# Altium integrated library Battery Holder.IntLib: 5 symbols
Pins are listed as number, name and electrical type; pins without a type are passive.

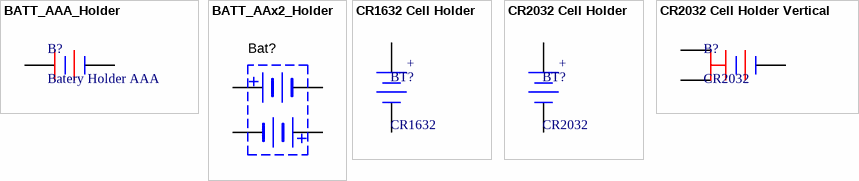
[diagram p0: symbols BATT_AAA_Holder to CR2032 Cell Holder Vertical]

## BATT_AAA_Holder
designator B?, comment Batery Holder AAA
Latest Reviewer: Zion Blue; Special thanks to: Hristo Hristov; Publisher: Cynetik Group; Publised: 3-Jul-2014
footprint BAT HOLDER 1xAAA
footprint BATTERY HODLER 2xAAA
pins: 1 +, 2 -

## BATT_AAx2_Holder
designator Bat?, comment NiMH-AA x 2  (value not drawn)
Battery holder 2xAA PCB mount; Manufacturer 1: MPD (Memory Protection Devices); Manufacturer Part Number 1: BK-6100-PC4; Ratings: 1300 mAh; Battery Type, Function: Cylindrical, Holder; Style: Holder (Open); Battery Cell Size: AA; Number of Cells: 2; Package / Case: per dwg; Supplier 1: Digi-Key; Supplier Part Number 1: BK-6100-PC4-ND; Mounting Type: PCB, Through Hole; Height Above Board: 0.657" (16.69mm); ComponentLink1URL: http://www.memoryprotectiondevices.com/datasheets/BK-6100-PC4-datasheet.pdf; ComponentLink1Description: http://www.memoryprotectiondevices.com/datasheets/BK-6100-PC4-datasheet.pdf
footprint BATT_HOLDER_2XAA (2-cell AA battery holder)
pins: C1+, C1-, C2+, C2-

## CR1632 Cell Holder
designator BT?, comment CR1632
CR1632 Cell Holder; Revised: Zion Blue; Published: 06-May-2014; LatestRevisionDate: 17-Jul-2002; LatestRevisionNote: Re-released for DXP Platform.; Publisher: Cynetik Group
footprint CR1632 Battery
footprint CR1632 Battery SMD
pins: 1 +, 2 -

## CR2032 Cell Holder
designator BT?, comment CR2032
CR2032 Cell Holder; Revised: Zion Blue; Published: 06-May-2014; LatestRevisionDate: 17-Jul-2002; LatestRevisionNote: Re-released for DXP Platform.; Publisher: Cynetik Group
footprint CR2032 CELL HOLDER
footprint CR2032 CELL HOLDER SMD
footprint PIN3V (Socket PIN 3V)
footprint CR-2032-EDGE
footprint CR-2032H
pins: 1 +, 2 -

## CR2032 Cell Holder Vertical
designator B?, comment CR2032
CR2032 Cell Holder Vertical; Latest Reviewer: Zion Blue; Special thanks to: Hristo Hristov; Publisher: Cynetik Group; Published: 3-Jul-2014
footprint CR-2032V
pins: 1 +, 2 -, 3 +